# Altium integrated library CAY16-103J4LF.IntLib: 1 symbol
Pins are listed as number, name and electrical type; pins without a type are passive.

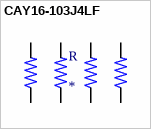
[diagram p0: symbol CAY16-103J4LF]

## CAY16-103J4LF
designator R
10k Ohm Â±5% 62.5mW Power Per Element Isolated Resistor Network/Array Â±200ppm/Â°C 1206 _3216 Metric_, Convex, Long Side Terminals; MP: CAY16-103J4LF; MF: Bourns; Package: 1206 Bourns; Availability: Unavailable; Value: *; SnapEDA_Link: https://www.snapeda.com/parts/CAY16-103J4LF/Bourns%20-%20J.W.%20Miller/view-part/47136/?ref=snap; Price: None
footprint CAY16-J4
pins: 1, 2, 3, 4, 5, 6, 7, 8